# EAGLE library part M20-7910442R-6PIN (library STAC)
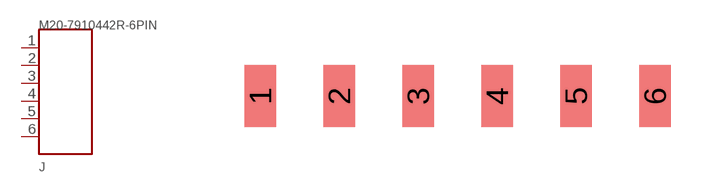
[diagram p17: symbol with the pads of M20-7910442R-6PIN; footprint M20-7910442R-6PIN]

Designator prefix J

## M20-7910442R-6PIN  [M20-7910442R-6PIN]
1  P$1
2  P$2
3  P$3
4  P$4
5  P$5
6  P$6

## Footprint M20-7910442R-6PIN (pad centres in mm)
smd 1.02 x 2: 1 -6.35,0; 2 -3.81,0; 3 -1.27,0; 4 1.27,0; 5 3.81,0; 6 6.35,0